# Altium footprint library PCB - DIODES - LED 1816_0706 0.6MM.PcbLib: 1 footprints
Each footprint in its own frame and in the unit in brackets; x right, y up, seen from the top. Pads: shape width x height; smd on the part's side, far side on the other; paste and mask are expansions set on the pad; w line width, h text height; cw(c..) or ccw(c..) is an arc to the next point about the centre after c.
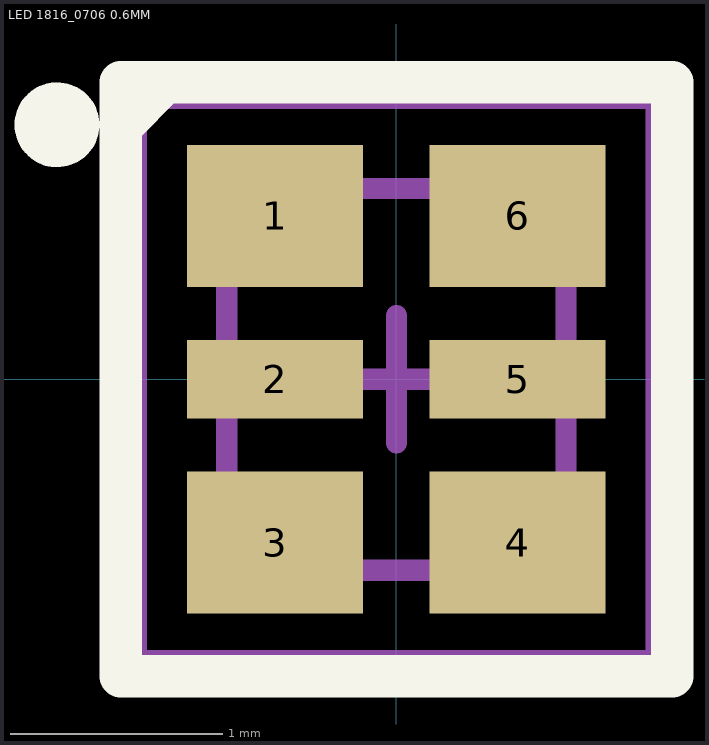
[diagram p0: the footprint, top view; thin cyan lines are the x and y axes]

## LED 1816_0706 0.6MM [mm] "SMD RGB LED Indication 6 Pads, Body 1.80x1.60mm"
height 0.6
pads (6):
  rect 0.83x0.67 smd: 1(-0.572,0.77) 3(-0.572,-0.77) 4(0.572,-0.77) 6(0.572,0.77)
  rect 0.83x0.37 smd: 2(-0.572,0) 5(0.572,0)
Top Overlay:
  circle w0.2: c-1.6,1.2 r0.1
  region: -0.95,1.4 -1.3,1.4 -1.3,1.05
  region: -1.35,1.45 -1.3,1.4
  lines w0.2: -1.3,-1.4 1.3,-1.4 1.3,1.4 -1.3,1.4 -1.3,-1.4
Mechanical 13:
  lines w0.1: -0.8,-0.9 0.8,-0.9 0.8,0.9 -0.8,0.9 -0.8,-0.9
Mechanical 15:
  lines w0.05: -1.2,-1.3 1.2,-1.3 1.2,1.3 -1.2,1.3 -1.2,-1.3
Mechanical 2 (Mech9):
  lines w0.1: -0.3,0 0,0 ; 0,-0.3 0,0 ; 0,0.3 0,0 ; 0.3,0 0,0
3D body "Rohm - LED 1816_0706 0.6MM v4 body.step": height 0.6, standoff 0, extent -0.8,-0.9 0.8,0.9
3D body "Rohm - LED 1816_0706 0.6MM v3 lens.step": height 0.6, standoff 0.2, extent -0.65,-0.75 0.65,0.75